# EAGLE library part TPS560430 (library LARS_409_DC-DC)
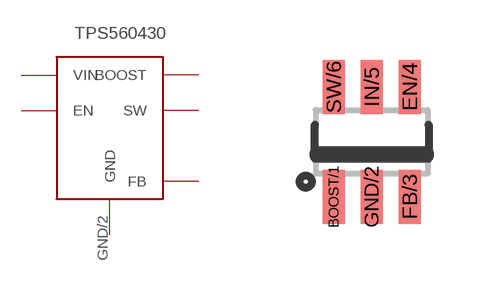
[diagram p1: symbol with the pads of SOT-23-6; footprint SOT-23-6]

Designator prefix U

## TPS560430  [SOT-23-6]
BOOST/1  BOOST  out
EN/4  EN  in
FB/3  FB  in
GND/2  GND  out
IN/5  VIN  in
SW/6  SW  out

## Footprint SOT-23-6 (pad centres in mm)
6-SOT23, 0.95 mm pitch, 2.80 mm span, 2.90 X 1.60 X 1.45 mm body 6-pin SOT23 package with 0.95 mm pitch, 2.80 mm span with body size 2.90 X 1.60 X 1.45 mm
smd 0.55 x 1.35: BOOST/1 -0.95,-1.375; EN/4 0.95,1.375; FB/3 0.95,-1.375; GND/2 0,-1.375; IN/5 0,1.375; SW/6 -0.95,1.375